# EAGLE library part TPS55289RYQR (library TPS55289RYQR)
30-V, 8-A buck-boost converter with IC interface Source: Datasheet <https://www.ti.com/lit/ds/symlink/tps55289.pdf?ts=1664818706180&ref_url=https%3A%2F%2Fwww.ti.com%2Fproduct%2FTPS55289%2Fpart-details%2FTPS55289RYQR%3FkeyMatch%3DTPS55289RYQR>
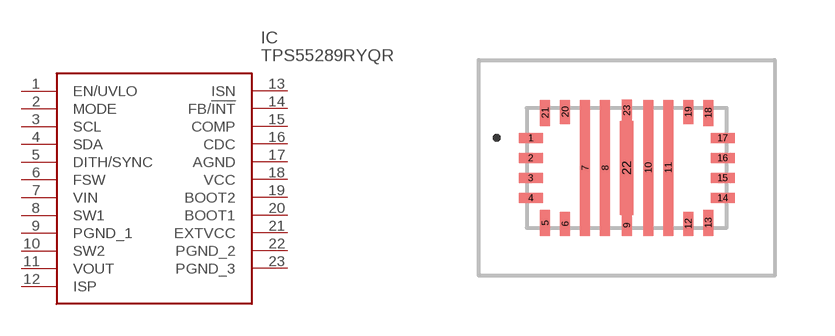
[diagram p0: symbol with the pads of TPS55289RYQR; footprint TPS55289RYQR]

Designator prefix IC

## TPS55289RYQR (Description: 30-V, 8-A buck-boost converter with IC interface; Height: 1mm; Manufacturer_Name: Texas Instruments; Manufacturer_Part_Number: TPS55289RYQR; Mouser_Part_Number: 595-TPS55289RYQR; Mouser_Price-Stock: https://www.mouser.co.uk/ProductDetail/Texas-Instruments/TPS55289RYQR?qs=T%252BzbugeAwjhgaIN94Lbpjg%3D%3D)  [TPS55289RYQR]
1  EN/UVLO
2  MODE
3  SCL
4  SDA
5  DITH/SYNC
6  FSW
7  VIN
8  SW1
9  PGND_1
10  SW2
11  VOUT
12  ISP
13  ISN
14  FB/!INT
15  COMP
16  CDC
17  AGND
18  VCC
19  BOOT2
20  BOOT1
21  EXTVCC
22  PGND_2
23  PGND_3

## Footprint TPS55289RYQR (pad centres in mm)
TPS55289RYQR-1
smd 0.6 x 0.25: 1 -2.4,0.75; 2 -2.4,0.25; 3 -2.4,-0.25; 4 -2.4,-0.75; 14 2.4,-0.75; 15 2.4,-0.25; 16 2.4,0.25; 17 2.4,0.75
smd 0.25 x 0.65: 5 -2.04,-1.375; 13 2.04,-1.375; 18 2.04,1.375; 21 -2.04,1.375
smd 0.25 x 0.6: 6 -1.54,-1.4; 12 1.54,-1.4; 19 1.54,1.4; 20 -1.54,1.4
smd 0.25 x 3.4: 7 -1.04,0; 8 -0.54,0; 10 0.54,0; 11 1.04,0
smd 0.25 x 0.525: 9 0,-1.438; 23 0,1.438
smd 0.33 x 2.35: 22 0,0